# Altium footprint library TSOP16.PcbLib: 1 footprints
Each footprint in its own frame and in the unit in brackets; x right, y up, seen from the top. Pads: shape width x height; smd on the part's side, far side on the other; paste and mask are expansions set on the pad; w line width, h text height; cw(c..) or ccw(c..) is an arc to the next point about the centre after c.
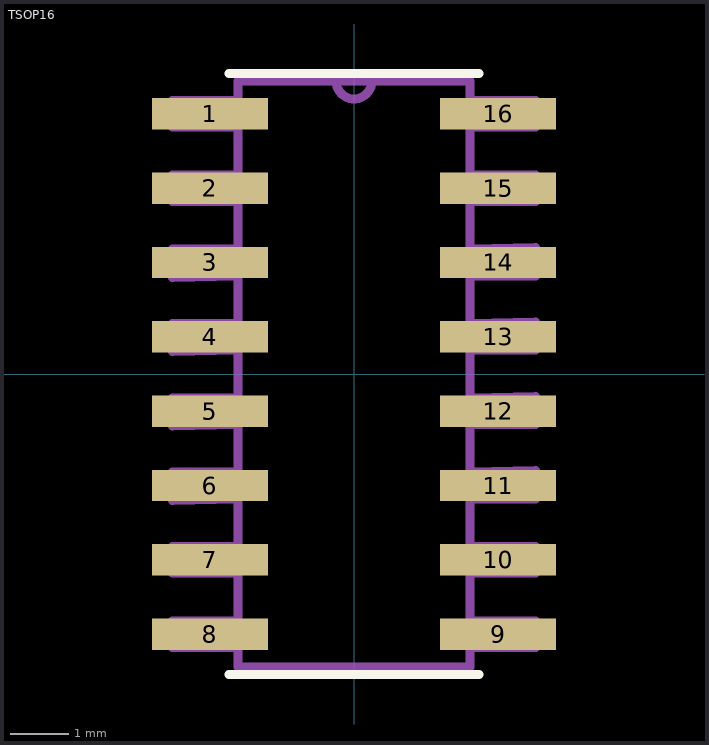
[diagram p0: the footprint, top view; thin cyan lines are the x and y axes]

## TSOP16 [mil]
pads (16):
  rect 78x21 smd: 1(-97,175) 2(-97,125) 3(-97,75) 4(-97,25) 5(-97,-25) 6(-97,-75) 7(-97,-125) 8(-97,-175) 9(97,-175) 10(97,-125) 11(97,-75) 12(97,-25) 13(97,25) 14(97,75) 15(97,125) 16(97,175)
Top Overlay:
  lines w6: -84,-202 84,-202 ; -84,202 84,202
Mechanical 13:
  lines w6: -12,197 ccw(c0,197) 12,197 ; -12,197 12,197 ; -12,197 -78,197 -78,-197 78,-197 78,197 12,197 ; -122,-184 -122,-166 -78,-166 -78,-184 -122,-184 ; -122,-134 -122,-116 -78,-116 -78,-134 -122,-134 ; -122,-85 -122,-66 -78,-66 -78,-84 -122,-85 ; -122,-35 -122,-16 -78,-16 -78,-34 -122,-35 ; -122,15 -122,34 -78,34 -78,16 -122,15 ; -122,65 -122,84 -78,84 -78,66 -122,65 ; -122,116 -122,134 -78,134 -78,116 -122,116 ; -122,166 -122,184 -78,184 -78,166 -122,166 ; 78,-184 78,-166 122,-166 122,-184 78,-184 ; 78,-134 78,-116 122,-116 122,-134 78,-134 ; 78,-84 78,-66 122,-65 122,-84 78,-84 ; 78,-34 78,-16 122,-15 122,-34 78,-34 ; 78,16 78,34 122,35 122,16 78,16 ; 78,66 78,84 122,85 122,66 78,66 ; 78,116 78,134 122,134 122,116 78,116 ; 78,166 78,184 122,184 122,166 78,166